# Altium schematic symbol library QSTL_25P_ZIF_ZIF.SchLib: 1 symbol
Pins are listed as number, name and electrical type; pins without a type are passive.

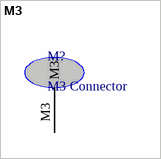
[diagram p0: symbol M3]

## M3
designator M?, comment M3 Connector
footprint M3
pins: M3